# Altium schematic symbol library LM5146Q.Schlib: 1 symbol
Pins are listed as number, name and electrical type; pins without a type are passive.

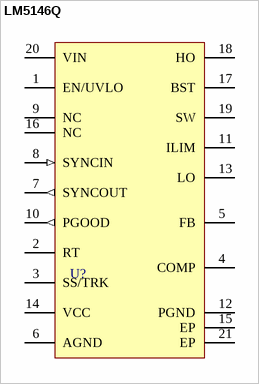
[diagram p0: symbol LM5146Q]

## LM5146Q
designator U?
100-V Synchronous Buck DC/DC Controller
pins: 1 EN/UVLO, 2 RT, 3 SS/TRK, 4 COMP, 5 FB, 6 AGND (power), 7 SYNCOUT (out), 8 SYNCIN (in), 9 NC, 10 PGOOD (out), 11 ILIM, 12 PGND (power), 13 LO, 14 VCC (power), 15 EP (power), 16 NC, 17 BST, 18 HO, 19 SW, 20 VIN (power), 21 EP (power)